# Altium schematic symbol library 26-48-1022.SchLib: 1 symbol
Pins are listed as number, name and electrical type; pins without a type are passive.

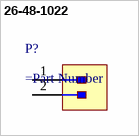
[diagram p0: symbol 26-48-1022]

## 26-48-1022
designator P?
=Description
pins: 1, 2